# EAGLE library part 691318700007 (library Eagle_WR-TBL Pluggable Connector (rev21a))
WR-TBL Serie 3187 - 5.00 mm Close Vertical PCB Header with Flanges KIND PROPERTIES Pitch 5 mm MATERIAL PROPERTIES Insulator Material PBT Insulator Flammability Rating UL94 V-0 Contact Material Brass Contact Plating Tin GENERAL INFORMATION Operating Temperature -40 up to +105 °C Compliance RoHS ELECTRICAL PROPERTIES IR cULus 20 A IR VDE 20 A Working Voltage [cULus] 300 V (AC) Working Voltage [VDE] 300 V (AC) Withstanding Voltage [cULus] 1600 V (AC) Withstanding Voltage [VDE] 2500 V (AC) Contact Resistance [cULus] 20 mΩ Contact Resistance [VDE] 20 mΩ CERTIFICATION cULus Approval E315414 VDE Approval 40023195 <https://www.we-online.com/catalog/media/o33272v209%20Family_WR-TBL_69131870000x.jpg> Details see: https://www.we-online.com/catalog/en/TBL_5_00_3187_CLOSE_VERTICAL_PCB_HEADER_W_FLANGES_69131870000X/ Updated by Ella Wu 2019-12-24 2019(C) Wurth Elektronik
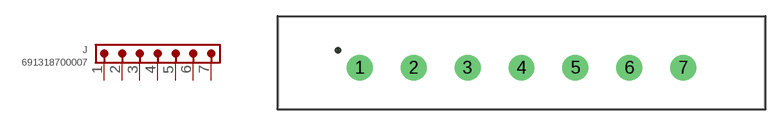
[diagram p183: symbol with the pads of 691318700007; footprint 691318700007]

Designator prefix J

## 691318700007 (DATASHEET-URL: https://www.we-online.com/catalog/datasheet/691318700007.pdf; IR-UL: 20A; IR-VDE: 20A; MOUNT: THT; PART-NUMBER: 691318700007; PINS: 7; PITCH: 5mm; TYPE: Vertical; VALUE: 691318700007; WORKING-VOLTAGE-UL: 300V (AC); WORKING-VOLTAGE-VDE: 300V (AC))  [691318700007]
1  1  pas
2  2  pas
3  3  pas
4  4  pas
5  5  pas
6  6  pas
7  7  pas

## Footprint 691318700007 (pad centres in mm)
WR-TBL Serie 3187 - 5.00 mm Close Vertical PCB Header with Flanges Max Height = 12mm , Pitch 5mm , 7pins
drill 1.6: 1 -15,0; 2 -10,0; 3 -5,0; 4 0,0; 5 5,0; 6 10,0; 7 15,0